# Altium integrated library Linear Technology Power Management Switching Regulator LTC1174-LTC3901.IntLib: 2647 symbols (part 107 of 364)
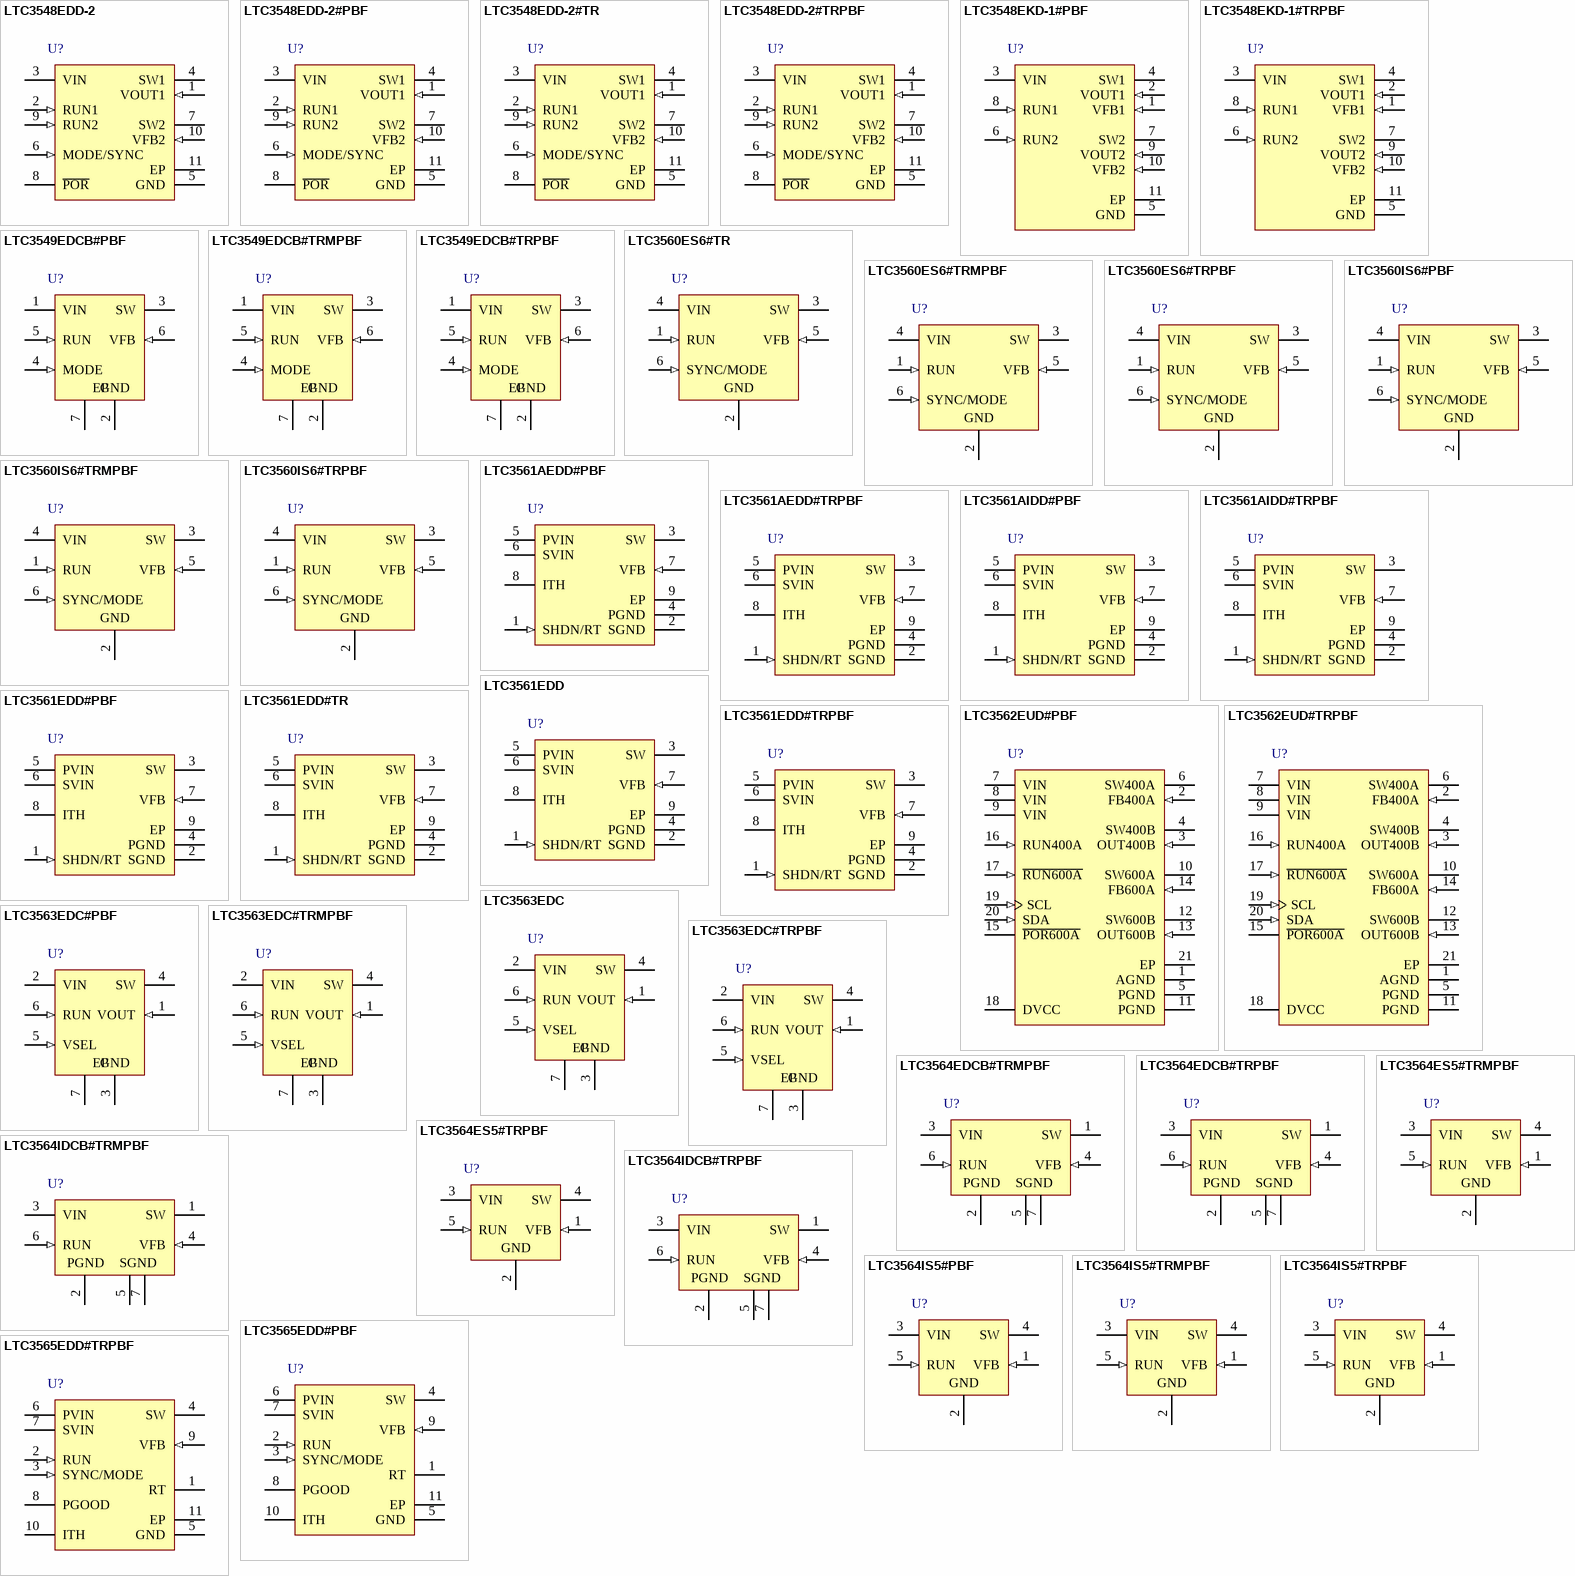
[diagram p269: symbols LTC3548EDD-2 to LTC3565EDD#TRPBF]

## LTC3565EDD#PBF
designator U?
1.25 A, 4 MHz, Synchronous Step-Down DC/DC Converter, 10-pin SON (DD-10), -40 to 125 degC, Pb-Free; Manufacturer: Linear Technology; PartNumber: LTC3565EDD#PBF; Frequency Adjust Range: UP - 4MHz; Number of Outputs: 1; DatasheetVersion: Rev. B; PackageVersion: Rev. C, 06/2010; PackageReference: DD-10; PackageDescription: 10-Pin Plastic DFN, Body 3 x 3 mm, Pitch 0.5 mm; Supplier 1: Digi-Key; Supplier Part Number 1: LTC3565EDD#PBF-ND; Supplier 2: Newark; Supplier Part Number 2: 46P4011; RoHS: TRUE; Mounting Technology: Surface Mount; Code_JEDEC: MO-229; ComponentLink1Description: Manufacturer URL; ComponentLink1URL: http://www.linear.com/; ComponentLink2Description: Datasheet; ComponentLink2URL: http://cds.linear.com/docs/en/datasheet/3565fb%20.pdf; ComponentLink3Description: Package Specification; ComponentLink3URL: http://cds.linear.com/docs/en/packaging/DFN_10_05-08-1699.pdf
footprint LT-DD-10_V (SON, 10-Leads, Body 3x3mm, Pitch 0.5mm, Thermal Pad 2.38x1.65mm)
pins: 1 RT "Timing Resistor Pin. The oscillator frequency is programmed by connecting a resistor from this pin to ground.", 2 RUN (in) "Converter Enable Pin. Forcing this pin above 1.5V enables this part, while forcing it below 0.3V causes the device to shut down. In shutdown, the device draws <1uA supply current. This pin must be driven; do not float.", 3 SYNC/MODE (in) "Combination Mode Selection and Oscillator Synchronization Pin. This pin controls the operation of the device. When tied to SVIN or GND, Burst Mode operation or pulse skipping mode is selected, respectively. If this pin is (See Datasheet)", 4 SW (power) "The Switch Node Connection to the Inductor. This pin swings from PVIN to GND.", 5 GND (power) "Main Power Ground Pin. Connect to the (-) terminal of COUT, and (-) terminal of CIN. The exposed pad must be soldered to electrical ground on the PCB.", 6 PVIN (power) "Main Supply Pin. Must be closely decoupled to GND.", 7 SVIN (power) "The Signal Power Pin. All active circuitry is powered from this pin. Must be closely decoupled to GND. SVIN must be greater than or equal to PVIN.", 8 PGOOD (oc) "The Power Good Pin. This common drain logic output is pulled to GND when the output voltage is not within +/-7% of regulation.", 9 VFB (in) "Receives the feedback voltage from the external resistive divider across the output. Nominal voltage for this pin is 0.6V.", 10 ITH "Error Amplifier Compensation Point. The current comparator threshold increases with this control voltage. Nominal voltage range for this pin is 0.4V to 1.4V.", 11 EP (power) "Main Power Ground Pin. Connect to the (-) terminal of COUT, and (-) terminal of CIN. The exposed pad must be soldered to electrical ground on the PCB."

## LTC3565EDD#TRPBF
designator U?
1.25 A, 4 MHz, Synchronous Step-Down DC/DC Converter, 10-pin SON (DD-10), -40 to 125 degC, Pb-Free, Tape and Reel; Manufacturer: Linear Technology; PartNumber: LTC3565EDD#TRPBF; Frequency Adjust Range: UP - 4MHz; Number of Outputs: 1; DatasheetVersion: Rev. B; PackageVersion: Rev. C, 06/2010; PackageReference: DD-10; PackageDescription: 10-Pin Plastic DFN, Body 3 x 3 mm, Pitch 0.5 mm; Supplier 1: Digi-Key; Supplier Part Number 1: LTC3565EDD#TRPBF-ND; Packing: Tape and Reel; RoHS: TRUE; Mounting Technology: Surface Mount; Code_JEDEC: MO-229; ComponentLink1Description: Manufacturer URL; ComponentLink1URL: http://www.linear.com/; ComponentLink2Description: Datasheet; ComponentLink2URL: http://cds.linear.com/docs/en/datasheet/3565fb%20.pdf; ComponentLink3Description: Package Specification; ComponentLink3URL: http://cds.linear.com/docs/en/packaging/DFN_10_05-08-1699.pdf
footprint LT-DD-10_V (SON, 10-Leads, Body 3x3mm, Pitch 0.5mm, Thermal Pad 2.38x1.65mm)
pins: 1 RT "Timing Resistor Pin. The oscillator frequency is programmed by connecting a resistor from this pin to ground.", 2 RUN (in) "Converter Enable Pin. Forcing this pin above 1.5V enables this part, while forcing it below 0.3V causes the device to shut down. In shutdown, the device draws <1uA supply current. This pin must be driven; do not float.", 3 SYNC/MODE (in) "Combination Mode Selection and Oscillator Synchronization Pin. This pin controls the operation of the device. When tied to SVIN or GND, Burst Mode operation or pulse skipping mode is selected, respectively. If this pin is (See Datasheet)", 4 SW (power) "The Switch Node Connection to the Inductor. This pin swings from PVIN to GND.", 5 GND (power) "Main Power Ground Pin. Connect to the (-) terminal of COUT, and (-) terminal of CIN. The exposed pad must be soldered to electrical ground on the PCB.", 6 PVIN (power) "Main Supply Pin. Must be closely decoupled to GND.", 7 SVIN (power) "The Signal Power Pin. All active circuitry is powered from this pin. Must be closely decoupled to GND. SVIN must be greater than or equal to PVIN.", 8 PGOOD (oc) "The Power Good Pin. This common drain logic output is pulled to GND when the output voltage is not within +/-7% of regulation.", 9 VFB (in) "Receives the feedback voltage from the external resistive divider across the output. Nominal voltage for this pin is 0.6V.", 10 ITH "Error Amplifier Compensation Point. The current comparator threshold increases with this control voltage. Nominal voltage range for this pin is 0.4V to 1.4V.", 11 EP (power) "Main Power Ground Pin. Connect to the (-) terminal of COUT, and (-) terminal of CIN. The exposed pad must be soldered to electrical ground on the PCB."

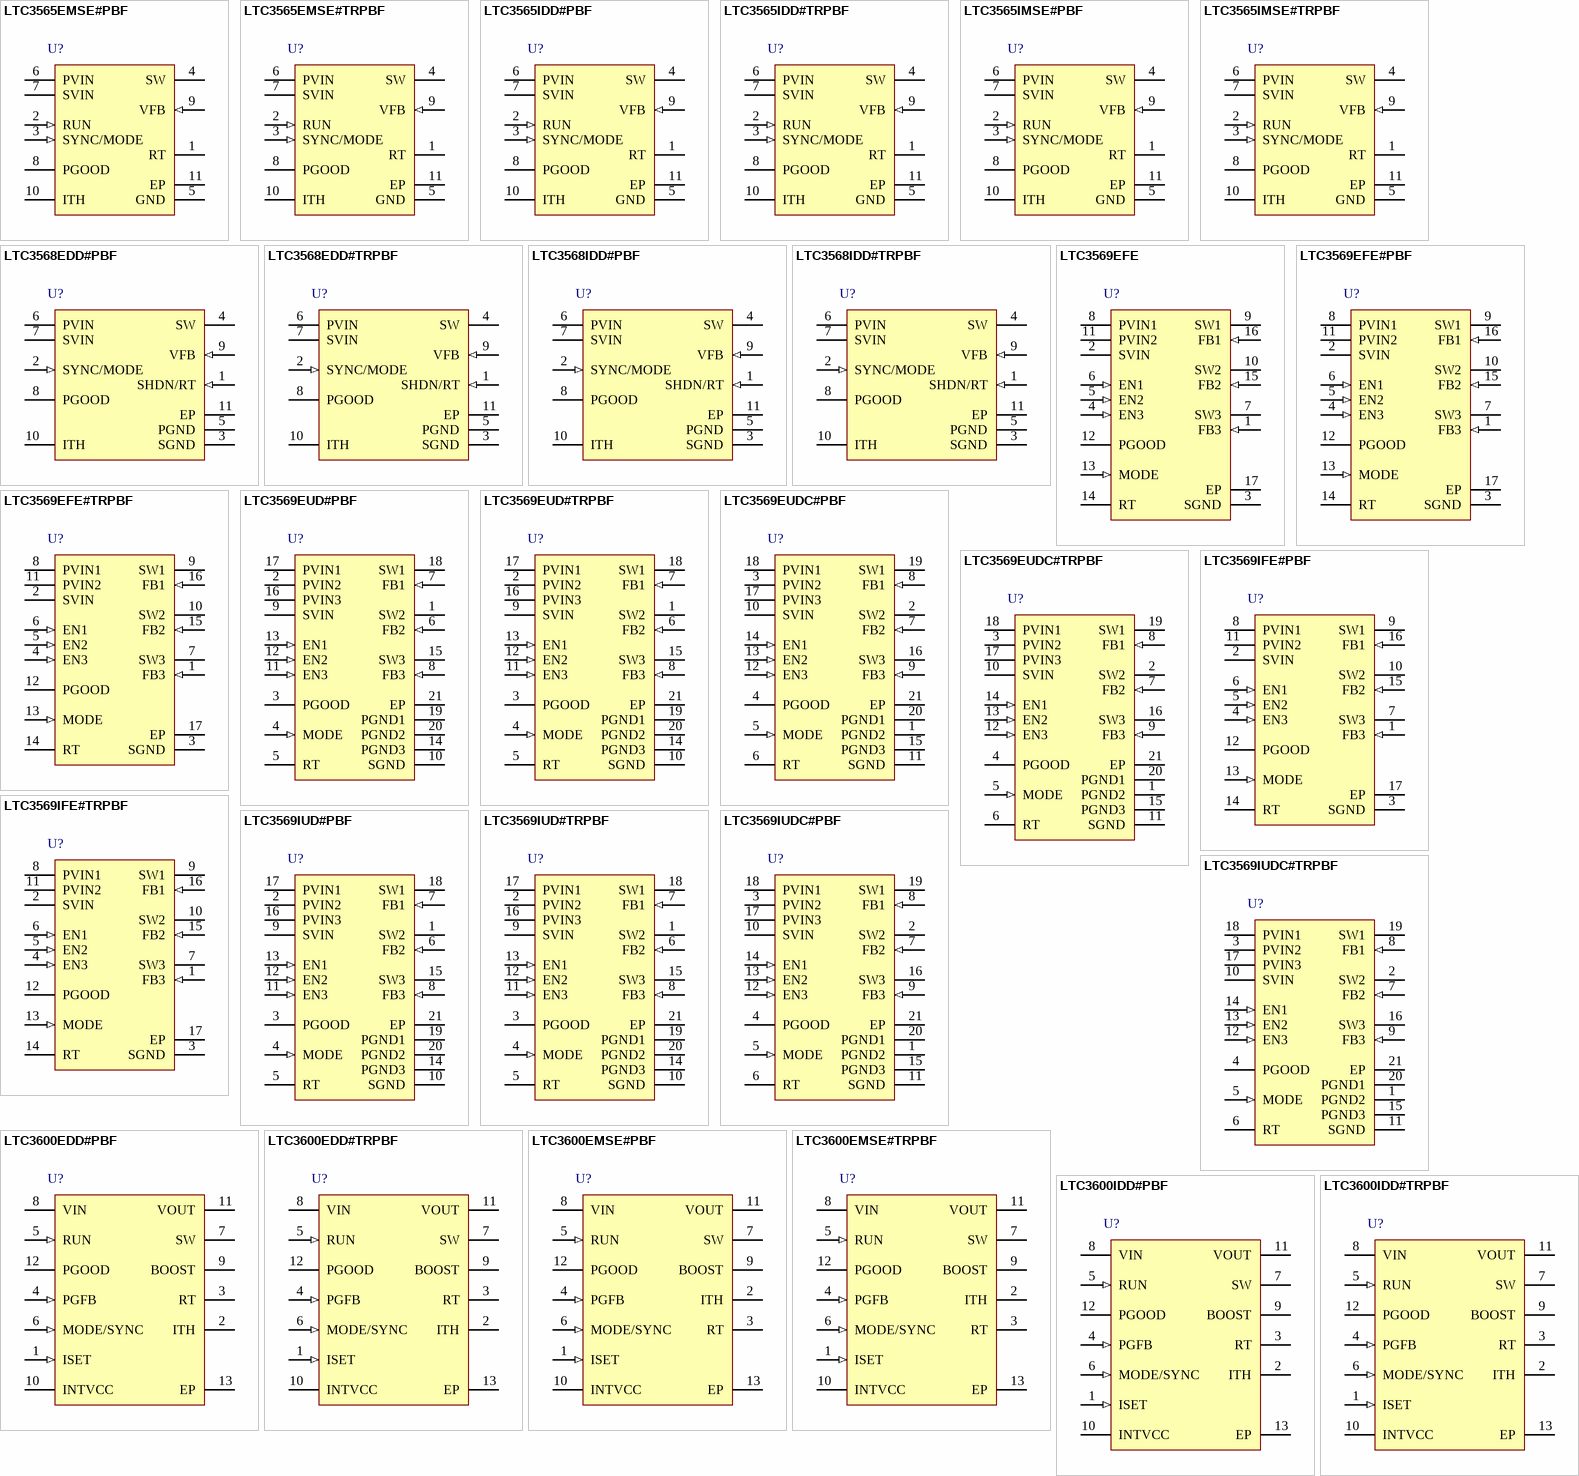
[diagram p35: symbols LTC3565EMSE#PBF to LTC3600IDD#TRPBF]

## LTC3565EMSE#PBF
designator U?
1.25 A, 4 MHz, Synchronous Step-Down DC/DC Converter, 10-pin SOP (MSE-10-EDP), -40 to 125 degC, Pb-Free; Manufacturer: Linear Technology; PartNumber: LTC3565EMSE#PBF; Frequency Adjust Range: UP - 4MHz; Number of Outputs: 1; DatasheetVersion: Rev. B; PackageVersion: Rev. I, 05/2013; PackageReference: MSE-10; PackageDescription: 10-Pin Plastic MSOP, Exposed Die Pad, Body 3 x 3 mm, Pitch 0.5 mm; Supplier 1: Digi-Key; Supplier Part Number 1: LTC3565EMSE#PBF-ND; Supplier 2: Newark; Supplier Part Number 2: 46P4012; RoHS: TRUE; Mounting Technology: Surface Mount; ComponentLink1Description: Manufacturer URL; ComponentLink1URL: http://www.linear.com/; ComponentLink2Description: Datasheet; ComponentLink2URL: http://cds.linear.com/docs/en/datasheet/3565fb%20.pdf; ComponentLink3Description: Package Specification; ComponentLink3URL: http://cds.linear.com/docs/en/packaging/05081664_I_MSE.pdf
footprint LT-MSE-10-EDP_N (SOP, 10-Leads, Body 3.1x3.1mm, Pitch 0.5mm, Thermal Pad 1.88x1.68mm, IPC Medium Density)
footprint LT-MSE-10-EDP_L (SOP, 10-Leads, Body 3.1x3.1mm, Pitch 0.5mm, Thermal Pad 1.88x1.68mm, IPC High Density)
footprint LT-MSE-10-EDP_M (SOP, 10-Leads, Body 3.1x3.1mm, Pitch 0.5mm, Thermal Pad 1.88x1.68mm, IPC Low Density)
pins: 1 RT "Timing Resistor Pin. The oscillator frequency is programmed by connecting a resistor from this pin to ground.", 2 RUN (in) "Converter Enable Pin. Forcing this pin above 1.5V enables this part, while forcing it below 0.3V causes the device to shut down. In shutdown, the device draws <1uA supply current. This pin must be driven; do not float.", 3 SYNC/MODE (in) "Combination Mode Selection and Oscillator Synchronization Pin. This pin controls the operation of the device. When tied to SVIN or GND, Burst Mode operation or pulse skipping mode is selected, respectively. If this pin is (See Datasheet)", 4 SW (power) "The Switch Node Connection to the Inductor. This pin swings from PVIN to GND.", 5 GND (power) "Main Power Ground Pin. Connect to the (-) terminal of COUT, and (-) terminal of CIN. The exposed pad must be soldered to electrical ground on the PCB.", 6 PVIN (power) "Main Supply Pin. Must be closely decoupled to GND.", 7 SVIN (power) "The Signal Power Pin. All active circuitry is powered from this pin. Must be closely decoupled to GND. SVIN must be greater than or equal to PVIN.", 8 PGOOD (oc) "The Power Good Pin. This common drain logic output is pulled to GND when the output voltage is not within +/-7% of regulation.", 9 VFB (in) "Receives the feedback voltage from the external resistive divider across the output. Nominal voltage for this pin is 0.6V.", 10 ITH "Error Amplifier Compensation Point. The current comparator threshold increases with this control voltage. Nominal voltage range for this pin is 0.4V to 1.4V.", 11 EP (power) "Main Power Ground Pin. Connect to the (-) terminal of COUT, and (-) terminal of CIN. The exposed pad must be soldered to electrical ground on the PCB."

## LTC3565EMSE#TRPBF
designator U?
1.25 A, 4 MHz, Synchronous Step-Down DC/DC Converter, 10-pin SOP (MSE-10-EDP), -40 to 125 degC, Pb-Free, Tape and Reel; Manufacturer: Linear Technology; PartNumber: LTC3565EMSE#TRPBF; Frequency Adjust Range: UP - 4MHz; Number of Outputs: 1; DatasheetVersion: Rev. B; PackageVersion: Rev. I, 05/2013; PackageReference: MSE-10; PackageDescription: 10-Pin Plastic MSOP, Exposed Die Pad, Body 3 x 3 mm, Pitch 0.5 mm; Supplier 1: Digi-Key; Supplier Part Number 1: LTC3565EMSE#TRPBF-ND; Supplier 2: Newark; Supplier Part Number 2: 46P5699; Packing: Tape and Reel; RoHS: TRUE; Mounting Technology: Surface Mount; ComponentLink1Description: Manufacturer URL; ComponentLink1URL: http://www.linear.com/; ComponentLink2Description: Datasheet; ComponentLink2URL: http://cds.linear.com/docs/en/datasheet/3565fb%20.pdf; ComponentLink3Description: Package Specification; ComponentLink3URL: http://cds.linear.com/docs/en/packaging/05081664_I_MSE.pdf
footprint LT-MSE-10-EDP_N (SOP, 10-Leads, Body 3.1x3.1mm, Pitch 0.5mm, Thermal Pad 1.88x1.68mm, IPC Medium Density)
footprint LT-MSE-10-EDP_L (SOP, 10-Leads, Body 3.1x3.1mm, Pitch 0.5mm, Thermal Pad 1.88x1.68mm, IPC High Density)
footprint LT-MSE-10-EDP_M (SOP, 10-Leads, Body 3.1x3.1mm, Pitch 0.5mm, Thermal Pad 1.88x1.68mm, IPC Low Density)
pins: 1 RT "Timing Resistor Pin. The oscillator frequency is programmed by connecting a resistor from this pin to ground.", 2 RUN (in) "Converter Enable Pin. Forcing this pin above 1.5V enables this part, while forcing it below 0.3V causes the device to shut down. In shutdown, the device draws <1uA supply current. This pin must be driven; do not float.", 3 SYNC/MODE (in) "Combination Mode Selection and Oscillator Synchronization Pin. This pin controls the operation of the device. When tied to SVIN or GND, Burst Mode operation or pulse skipping mode is selected, respectively. If this pin is (See Datasheet)", 4 SW (power) "The Switch Node Connection to the Inductor. This pin swings from PVIN to GND.", 5 GND (power) "Main Power Ground Pin. Connect to the (-) terminal of COUT, and (-) terminal of CIN. The exposed pad must be soldered to electrical ground on the PCB.", 6 PVIN (power) "Main Supply Pin. Must be closely decoupled to GND.", 7 SVIN (power) "The Signal Power Pin. All active circuitry is powered from this pin. Must be closely decoupled to GND. SVIN must be greater than or equal to PVIN.", 8 PGOOD (oc) "The Power Good Pin. This common drain logic output is pulled to GND when the output voltage is not within +/-7% of regulation.", 9 VFB (in) "Receives the feedback voltage from the external resistive divider across the output. Nominal voltage for this pin is 0.6V.", 10 ITH "Error Amplifier Compensation Point. The current comparator threshold increases with this control voltage. Nominal voltage range for this pin is 0.4V to 1.4V.", 11 EP (power) "Main Power Ground Pin. Connect to the (-) terminal of COUT, and (-) terminal of CIN. The exposed pad must be soldered to electrical ground on the PCB."

## LTC3565IDD#PBF
designator U?
1.25 A, 4 MHz, Synchronous Step-Down DC/DC Converter, 10-pin SON (DD-10), -40 to 125 degC, Pb-Free; Manufacturer: Linear Technology; PartNumber: LTC3565IDD#PBF; Frequency Adjust Range: UP - 4MHz; Number of Outputs: 1; DatasheetVersion: Rev. B; PackageVersion: Rev. C, 06/2010; PackageReference: DD-10; PackageDescription: 10-Pin Plastic DFN, Body 3 x 3 mm, Pitch 0.5 mm; Supplier 1: Digi-Key; Supplier Part Number 1: LTC3565IDD#PBF-ND; Supplier 2: Farnell; Supplier Part Number 2: 2295082; Supplier 3: Newark; Supplier Part Number 3: 46P5700; RoHS: TRUE; Mounting Technology: Surface Mount; Code_JEDEC: MO-229; ComponentLink1Description: Manufacturer URL; ComponentLink1URL: http://www.linear.com/; ComponentLink2Description: Datasheet; ComponentLink2URL: http://cds.linear.com/docs/en/datasheet/3565fb%20.pdf; ComponentLink3Description: Package Specification; ComponentLink3URL: http://cds.linear.com/docs/en/packaging/DFN_10_05-08-1699.pdf
footprint LT-DD-10_V (SON, 10-Leads, Body 3x3mm, Pitch 0.5mm, Thermal Pad 2.38x1.65mm)
pins: 1 RT "Timing Resistor Pin. The oscillator frequency is programmed by connecting a resistor from this pin to ground.", 2 RUN (in) "Converter Enable Pin. Forcing this pin above 1.5V enables this part, while forcing it below 0.3V causes the device to shut down. In shutdown, the device draws <1uA supply current. This pin must be driven; do not float.", 3 SYNC/MODE (in) "Combination Mode Selection and Oscillator Synchronization Pin. This pin controls the operation of the device. When tied to SVIN or GND, Burst Mode operation or pulse skipping mode is selected, respectively. If this pin is (See Datasheet)", 4 SW (power) "The Switch Node Connection to the Inductor. This pin swings from PVIN to GND.", 5 GND (power) "Main Power Ground Pin. Connect to the (-) terminal of COUT, and (-) terminal of CIN. The exposed pad must be soldered to electrical ground on the PCB.", 6 PVIN (power) "Main Supply Pin. Must be closely decoupled to GND.", 7 SVIN (power) "The Signal Power Pin. All active circuitry is powered from this pin. Must be closely decoupled to GND. SVIN must be greater than or equal to PVIN.", 8 PGOOD (oc) "The Power Good Pin. This common drain logic output is pulled to GND when the output voltage is not within +/-7% of regulation.", 9 VFB (in) "Receives the feedback voltage from the external resistive divider across the output. Nominal voltage for this pin is 0.6V.", 10 ITH "Error Amplifier Compensation Point. The current comparator threshold increases with this control voltage. Nominal voltage range for this pin is 0.4V to 1.4V.", 11 EP (power) "Main Power Ground Pin. Connect to the (-) terminal of COUT, and (-) terminal of CIN. The exposed pad must be soldered to electrical ground on the PCB."

## LTC3565IDD#TRPBF
designator U?
1.25 A, 4 MHz, Synchronous Step-Down DC/DC Converter, 10-pin SON (DD-10), -40 to 125 degC, Pb-Free, Tape and Reel; Manufacturer: Linear Technology; PartNumber: LTC3565IDD#TRPBF; Frequency Adjust Range: UP - 4MHz; Number of Outputs: 1; DatasheetVersion: Rev. B; PackageVersion: Rev. C, 06/2010; PackageReference: DD-10; PackageDescription: 10-Pin Plastic DFN, Body 3 x 3 mm, Pitch 0.5 mm; Supplier 1: Digi-Key; Supplier Part Number 1: LTC3565IDD#TRPBF-ND; Packing: Tape and Reel; RoHS: TRUE; Mounting Technology: Surface Mount; Code_JEDEC: MO-229; ComponentLink1Description: Manufacturer URL; ComponentLink1URL: http://www.linear.com/; ComponentLink2Description: Datasheet; ComponentLink2URL: http://cds.linear.com/docs/en/datasheet/3565fb%20.pdf; ComponentLink3Description: Package Specification; ComponentLink3URL: http://cds.linear.com/docs/en/packaging/DFN_10_05-08-1699.pdf
footprint LT-DD-10_V (SON, 10-Leads, Body 3x3mm, Pitch 0.5mm, Thermal Pad 2.38x1.65mm)
pins: 1 RT "Timing Resistor Pin. The oscillator frequency is programmed by connecting a resistor from this pin to ground.", 2 RUN (in) "Converter Enable Pin. Forcing this pin above 1.5V enables this part, while forcing it below 0.3V causes the device to shut down. In shutdown, the device draws <1uA supply current. This pin must be driven; do not float.", 3 SYNC/MODE (in) "Combination Mode Selection and Oscillator Synchronization Pin. This pin controls the operation of the device. When tied to SVIN or GND, Burst Mode operation or pulse skipping mode is selected, respectively. If this pin is (See Datasheet)", 4 SW (power) "The Switch Node Connection to the Inductor. This pin swings from PVIN to GND.", 5 GND (power) "Main Power Ground Pin. Connect to the (-) terminal of COUT, and (-) terminal of CIN. The exposed pad must be soldered to electrical ground on the PCB.", 6 PVIN (power) "Main Supply Pin. Must be closely decoupled to GND.", 7 SVIN (power) "The Signal Power Pin. All active circuitry is powered from this pin. Must be closely decoupled to GND. SVIN must be greater than or equal to PVIN.", 8 PGOOD (oc) "The Power Good Pin. This common drain logic output is pulled to GND when the output voltage is not within +/-7% of regulation.", 9 VFB (in) "Receives the feedback voltage from the external resistive divider across the output. Nominal voltage for this pin is 0.6V.", 10 ITH "Error Amplifier Compensation Point. The current comparator threshold increases with this control voltage. Nominal voltage range for this pin is 0.4V to 1.4V.", 11 EP (power) "Main Power Ground Pin. Connect to the (-) terminal of COUT, and (-) terminal of CIN. The exposed pad must be soldered to electrical ground on the PCB."

## LTC3565IMSE#PBF
designator U?
1.25 A, 4 MHz, Synchronous Step-Down DC/DC Converter, 10-pin SOP (MSE-10-EDP), -40 to 125 degC, Pb-Free; Manufacturer: Linear Technology; PartNumber: LTC3565IMSE#PBF; Frequency Adjust Range: UP - 4MHz; Number of Outputs: 1; DatasheetVersion: Rev. B; PackageVersion: Rev. I, 05/2013; PackageReference: MSE-10; PackageDescription: 10-Pin Plastic MSOP, Exposed Die Pad, Body 3 x 3 mm, Pitch 0.5 mm; Supplier 1: Digi-Key; Supplier Part Number 1: LTC3565IMSE#PBF-ND; Supplier 2: Farnell; Supplier Part Number 2: 2295083; Supplier 3: Newark; Supplier Part Number 3: 46P5702; RoHS: TRUE; Mounting Technology: Surface Mount; ComponentLink1Description: Manufacturer URL; ComponentLink1URL: http://www.linear.com/; ComponentLink2Description: Datasheet; ComponentLink2URL: http://cds.linear.com/docs/en/datasheet/3565fb%20.pdf; ComponentLink3Description: Package Specification; ComponentLink3URL: http://cds.linear.com/docs/en/packaging/05081664_I_MSE.pdf
footprint LT-MSE-10-EDP_N (SOP, 10-Leads, Body 3.1x3.1mm, Pitch 0.5mm, Thermal Pad 1.88x1.68mm, IPC Medium Density)
footprint LT-MSE-10-EDP_L (SOP, 10-Leads, Body 3.1x3.1mm, Pitch 0.5mm, Thermal Pad 1.88x1.68mm, IPC High Density)
footprint LT-MSE-10-EDP_M (SOP, 10-Leads, Body 3.1x3.1mm, Pitch 0.5mm, Thermal Pad 1.88x1.68mm, IPC Low Density)
pins: 1 RT "Timing Resistor Pin. The oscillator frequency is programmed by connecting a resistor from this pin to ground.", 2 RUN (in) "Converter Enable Pin. Forcing this pin above 1.5V enables this part, while forcing it below 0.3V causes the device to shut down. In shutdown, the device draws <1uA supply current. This pin must be driven; do not float.", 3 SYNC/MODE (in) "Combination Mode Selection and Oscillator Synchronization Pin. This pin controls the operation of the device. When tied to SVIN or GND, Burst Mode operation or pulse skipping mode is selected, respectively. If this pin is (See Datasheet)", 4 SW (power) "The Switch Node Connection to the Inductor. This pin swings from PVIN to GND.", 5 GND (power) "Main Power Ground Pin. Connect to the (-) terminal of COUT, and (-) terminal of CIN. The exposed pad must be soldered to electrical ground on the PCB.", 6 PVIN (power) "Main Supply Pin. Must be closely decoupled to GND.", 7 SVIN (power) "The Signal Power Pin. All active circuitry is powered from this pin. Must be closely decoupled to GND. SVIN must be greater than or equal to PVIN.", 8 PGOOD (oc) "The Power Good Pin. This common drain logic output is pulled to GND when the output voltage is not within +/-7% of regulation.", 9 VFB (in) "Receives the feedback voltage from the external resistive divider across the output. Nominal voltage for this pin is 0.6V.", 10 ITH "Error Amplifier Compensation Point. The current comparator threshold increases with this control voltage. Nominal voltage range for this pin is 0.4V to 1.4V.", 11 EP (power) "Main Power Ground Pin. Connect to the (-) terminal of COUT, and (-) terminal of CIN. The exposed pad must be soldered to electrical ground on the PCB."